# EAGLE library part BQ51050B (library texas)
WIRELESS BATTERY CHARGER High-Efficiency Qi v1.1-Compliant Wireless Power Receiver and Battery Charger
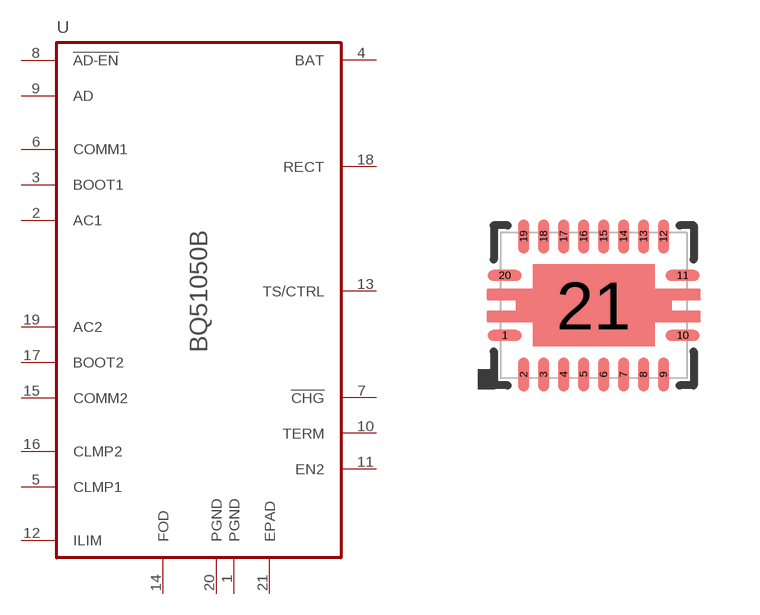
[diagram p113: symbol with the pads of PVQFN20-EP; footprint PVQFN20-EP]

Designator prefix U

## BQ51050B  [PVQFN20-EP]
1  PGND
2  AC1  in
3  BOOT1  out
4  BAT  out
5  CLMP1  out
6  COMM1  out
7  !CHG!  oc
8  !AD-EN!  out
9  AD  in
10  TERM  in
11  EN2  in
12  ILIM
13  TS/CTRL  in
14  FOD  in
15  COMM2  out
16  CLMP2  out
17  BOOT2  out
18  RECT  out
19  AC2  in
20  PGND
21  EPAD

## Footprint PVQFN20-EP (pad centres in mm)
20-PVQFN - RHL (R-PVQFN-N20) body 3.5 x 4.5
smd 0.85 x 0.28: 1 -2.225,-0.75; 10 2.225,-0.75; 11 2.225,0.75; 20 -2.225,0.75
smd 0.28 x 0.85: 2 -1.75,-1.725; 3 -1.25,-1.725; 4 -0.75,-1.725; 5 -0.25,-1.725; 6 0.25,-1.725; 7 0.75,-1.725; 8 1.25,-1.725; 9 1.75,-1.725; 12 1.75,1.725; 13 1.25,1.725; 14 0.75,1.725; 15 0.25,1.725; 16 -0.25,1.725; 17 -0.75,1.725; 18 -1.25,1.725; 19 -1.75,1.725
smd 3.05 x 2.05: 21 0,0